# Altium integrated library Capacitors - Aluminum - Electrolytic SMT.IntLib: 1988 symbols (part 28 of 50)
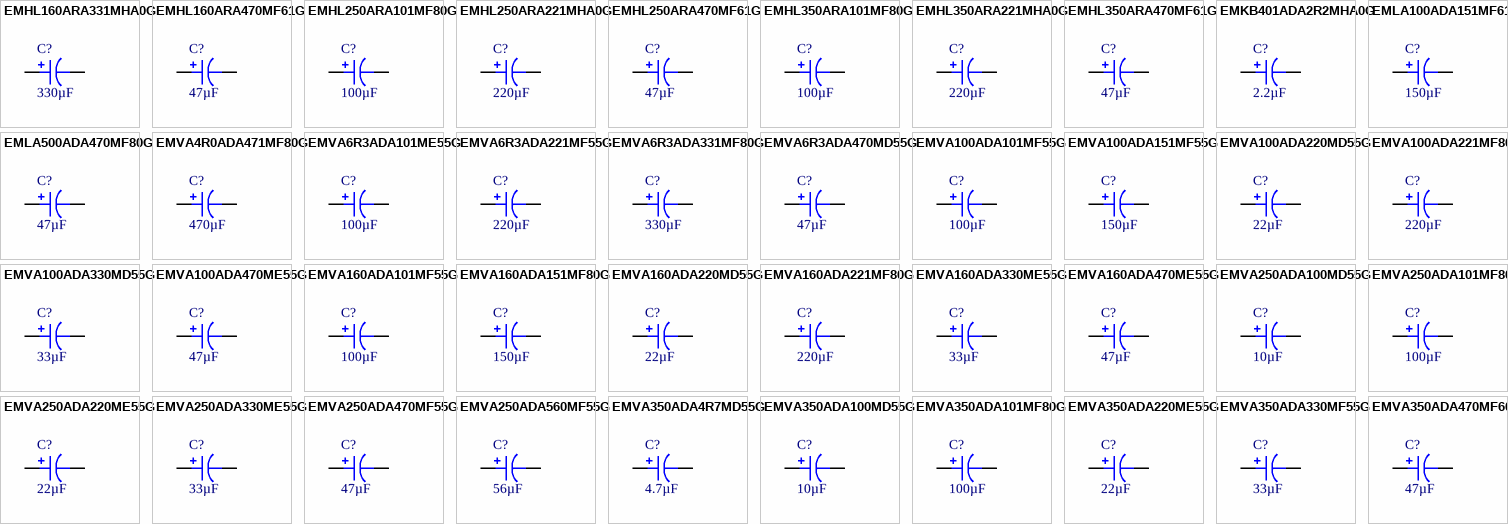
[diagram p75: symbols EMHL160ARA331MHA0G to EMVA350ADA470MF60G]

## EMVA250ADA101MF80G
designator C?, comment 100µF
CAP ALUM 100UF 20% 25V SMD; Part Number: EMVA250ADA101MF80G; Manufacturer: United Chemi-Con; Lifetime @ Temp.: 2000 Hrs @ 85°C; Polarization: Polar; Ripple Current @ High Frequency: 129.6mA @ 100kHz; Ripple Current @ Low Frequency: 120mA @ 120Hz; Surface Mount Land Size: 0.260" L x 0.260" W (6.60mm x 6.60mm); Applications: General Purpose; Capacitance: 100µF; ComponentLink1Description: Datasheet; ComponentLink1URL: http://www.chemi-con.co.jp/cgi-bin/CAT_DB/SEARCH/cat_db_al.cgi?e=e&j=p&pdfname=mva; ComponentLink2Description: DigiKey Link; ComponentLink2URL: http://digikey.com/product-detail/en/united-chemi-con/EMVA250ADA101MF80G/565-2105-1-ND/757266; Device Package: Radial, Can - SMD; Height - Seated (Max): 0.303" (7.70mm); LastUpdated: 9/2/2020 1:25:35 AM; Lifecycle Status: Active; Minimum Order: 1; Mounting Type: Surface Mount; Operating Temperature: -40°C ~ 85°C; Package / Case: Radial, Can - SMD; Packaging: TapeAndReel; PartId: 8202; Part Status: Active; Price: 0.14; Series: Alchip™- MVA; Size / Dimension: 0.248" Dia (6.30mm); Supplier 1: DigiKey; Supplier Part Number 1: 565-2105-1-ND; Tolerance: ±20%; Value: 100µF; Voltage - Rated: 25V
footprint CAP ALSMD 6.6MM H7.7MM
pins: 1, 2

## EMVA250ADA220ME55G
designator C?, comment 22µF
CAP ALUM 22UF 20% 25V SMD; Part Number: EMVA250ADA220ME55G; Manufacturer: United Chemi-Con; Lifetime @ Temp.: 2000 Hrs @ 85°C; Polarization: Polar; Ripple Current @ High Frequency: 44.28mA @ 100kHz; Ripple Current @ Low Frequency: 41mA @ 120Hz; Surface Mount Land Size: 0.209" L x 0.209" W (5.30mm x 5.30mm); Applications: General Purpose; Capacitance: 22µF; ComponentLink1Description: Datasheet; ComponentLink1URL: http://www.chemi-con.co.jp/cgi-bin/CAT_DB/SEARCH/cat_db_al.cgi?e=e&j=p&pdfname=mva; ComponentLink2Description: DigiKey Link; ComponentLink2URL: http://digikey.com/product-detail/en/united-chemi-con/EMVA250ADA220ME55G/565-2101-1-ND/757262; Device Package: Radial, Can - SMD; Height - Seated (Max): 0.205" (5.20mm); LastUpdated: 9/2/2020 1:18:29 AM; Lifecycle Status: Active; Minimum Order: 1; Mounting Type: Surface Mount; Operating Temperature: -40°C ~ 85°C; Package / Case: Radial, Can - SMD; Packaging: TapeAndReel; PartId: 8563; Part Status: Active; Price: 0.08; Series: Alchip™- MVA; Size / Dimension: 0.197" Dia (5.00mm); Supplier 1: DigiKey; Supplier Part Number 1: 565-2101-1-ND; Tolerance: ±20%; Value: 22µF; Voltage - Rated: 25V
footprint CAP ALSMD 5.3MM H5.4MM
pins: 1, 2

## EMVA250ADA330ME55G
designator C?, comment 33µF
CAP ALUM 33UF 20% 25V SMD; Part Number: EMVA250ADA330ME55G; Manufacturer: United Chemi-Con; Lifetime @ Temp.: 2000 Hrs @ 85°C; Polarization: Polar; Ripple Current @ High Frequency: 50.76mA @ 100kHz; Ripple Current @ Low Frequency: 47mA @ 120Hz; Surface Mount Land Size: 0.209" L x 0.209" W (5.30mm x 5.30mm); Applications: General Purpose; Capacitance: 33µF; ComponentLink1Description: Datasheet; ComponentLink1URL: http://www.chemi-con.co.jp/cgi-bin/CAT_DB/SEARCH/cat_db_al.cgi?e=e&j=p&pdfname=mva; ComponentLink2Description: DigiKey Link; ComponentLink2URL: http://digikey.com/product-detail/en/united-chemi-con/EMVA250ADA330ME55G/565-2102-1-ND/757263; Device Package: Radial, Can - SMD; Height - Seated (Max): 0.205" (5.20mm); LastUpdated: 9/2/2020 1:18:29 AM; Lifecycle Status: Active; Minimum Order: 1; Mounting Type: Surface Mount; Operating Temperature: -40°C ~ 85°C; Package / Case: Radial, Can - SMD; Packaging: TapeAndReel; PartId: 8564; Part Status: Active; Price: 0.08; Series: Alchip™- MVA; Size / Dimension: 0.197" Dia (5.00mm); Supplier 1: DigiKey; Supplier Part Number 1: 565-2102-1-ND; Tolerance: ±20%; Value: 33µF; Voltage - Rated: 25V
footprint CAP ALSMD 5.3MM H5.4MM
pins: 1, 2

## EMVA250ADA470MF55G
designator C?, comment 47µF
CAP ALUM 47UF 20% 25V SMD; Part Number: EMVA250ADA470MF55G; Manufacturer: United Chemi-Con; Lifetime @ Temp.: 2000 Hrs @ 85°C; Polarization: Polar; Ripple Current @ High Frequency: 64.8mA @ 100kHz; Ripple Current @ Low Frequency: 60mA @ 120Hz; Surface Mount Land Size: 0.260" L x 0.260" W (6.60mm x 6.60mm); Applications: General Purpose; Capacitance: 47µF; ComponentLink1Description: Datasheet; ComponentLink1URL: http://www.chemi-con.co.jp/cgi-bin/CAT_DB/SEARCH/cat_db_al.cgi?e=e&j=p&pdfname=mva; ComponentLink2Description: DigiKey Link; ComponentLink2URL: http://digikey.com/product-detail/en/united-chemi-con/EMVA250ADA470MF55G/565-2103-1-ND/757264; Device Package: Radial, Can - SMD; Height - Seated (Max): 0.205" (5.20mm); LastUpdated: 9/2/2020 1:18:32 AM; Lifecycle Status: Active; Minimum Order: 1; Mounting Type: Surface Mount; Operating Temperature: -40°C ~ 85°C; Package / Case: Radial, Can - SMD; Packaging: TapeAndReel; PartId: 8686; Part Status: Active; Price: 0.08; Series: Alchip™- MVA; Size / Dimension: 0.248" Dia (6.30mm); Supplier 1: DigiKey; Supplier Part Number 1: 565-2103-1-ND; Tolerance: ±20%; Value: 47µF; Voltage - Rated: 25V
footprint CAP ALSMD 6.6MM H5.4MM
pins: 1, 2

## EMVA250ADA560MF55G
designator C?, comment 56µF
CAP ALUM 56UF 20% 25V SMD; Part Number: EMVA250ADA560MF55G; Manufacturer: United Chemi-Con; Lifetime @ Temp.: 2000 Hrs @ 85°C; Polarization: Polar; Ripple Current @ High Frequency: 71.28mA @ 100kHz; Ripple Current @ Low Frequency: 66mA @ 120Hz; Surface Mount Land Size: 0.260" L x 0.260" W (6.60mm x 6.60mm); Applications: General Purpose; Capacitance: 56µF; ComponentLink1Description: Datasheet; ComponentLink1URL: http://www.chemi-con.co.jp/cgi-bin/CAT_DB/SEARCH/cat_db_al.cgi?e=e&j=p&pdfname=mva; ComponentLink2Description: DigiKey Link; ComponentLink2URL: http://digikey.com/product-detail/en/united-chemi-con/EMVA250ADA560MF55G/565-2104-1-ND/757265; Device Package: Radial, Can - SMD; Height - Seated (Max): 0.205" (5.20mm); LastUpdated: 9/2/2020 1:18:32 AM; Lifecycle Status: Active; Minimum Order: 1; Mounting Type: Surface Mount; Operating Temperature: -40°C ~ 85°C; Package / Case: Radial, Can - SMD; Packaging: TapeAndReel; PartId: 8727; Part Status: Active; Price: 0.08; Series: Alchip™- MVA; Size / Dimension: 0.248" Dia (6.30mm); Supplier 1: DigiKey; Supplier Part Number 1: 565-2104-1-ND; Tolerance: ±20%; Value: 56µF; Voltage - Rated: 25V
footprint CAP ALSMD 6.6MM H5.4MM
pins: 1, 2

## EMVA350ADA4R7MD55G
designator C?, comment 4.7µF
CAP ALUM 4.7UF 20% 35V SMD; Part Number: EMVA350ADA4R7MD55G; Manufacturer: United Chemi-Con; Lifetime @ Temp.: 2000 Hrs @ 85°C; Polarization: Polar; Ripple Current @ High Frequency: 27mA @ 100kHz; Ripple Current @ Low Frequency: 18mA @ 120Hz; Surface Mount Land Size: 0.169" L x 0.169" W (4.30mm x 4.30mm); Applications: General Purpose; Capacitance: 4.7µF; ComponentLink1Description: Datasheet; ComponentLink1URL: http://www.chemi-con.co.jp/cgi-bin/CAT_DB/SEARCH/cat_db_al.cgi?e=e&j=p&pdfname=mva; ComponentLink2Description: DigiKey Link; ComponentLink2URL: http://digikey.com/product-detail/en/united-chemi-con/EMVA350ADA4R7MD55G/565-2114-1-ND/757275; Device Package: Radial, Can - SMD; Height - Seated (Max): 0.205" (5.20mm); LastUpdated: 9/2/2020 1:23:43 AM; Lifecycle Status: Active; Minimum Order: 1; Mounting Type: Surface Mount; Operating Temperature: -40°C ~ 85°C; Package / Case: Radial, Can - SMD; Packaging: TapeAndReel; PartId: 7174; Part Status: Active; Price: 0.07; Series: Alchip™- MVA; Size / Dimension: 0.157" Dia (4.00mm); Supplier 1: DigiKey; Supplier Part Number 1: 565-2114-1-ND; Tolerance: ±20%; Value: 4.7µF; Voltage - Rated: 35V
footprint CAP ALSMD POLY 4.3MM H5.5MM
pins: 1, 2

## EMVA350ADA100MD55G
designator C?, comment 10µF
CAP ALUM 10UF 20% 35V SMD; Part Number: EMVA350ADA100MD55G; Manufacturer: United Chemi-Con; Lifetime @ Temp.: 2000 Hrs @ 85°C; Polarization: Polar; Ripple Current @ High Frequency: 36mA @ 100kHz; Ripple Current @ Low Frequency: 24mA @ 120Hz; Surface Mount Land Size: 0.169" L x 0.169" W (4.30mm x 4.30mm); Applications: General Purpose; Capacitance: 10µF; ComponentLink1Description: Datasheet; ComponentLink1URL: http://www.chemi-con.co.jp/cgi-bin/CAT_DB/SEARCH/cat_db_al.cgi?e=e&j=p&pdfname=mva; ComponentLink2Description: DigiKey Link; ComponentLink2URL: http://digikey.com/product-detail/en/united-chemi-con/EMVA350ADA100MD55G/565-2115-1-ND/757276; Device Package: Radial, Can - SMD; Height - Seated (Max): 0.205" (5.20mm); LastUpdated: 9/2/2020 1:23:44 AM; Lifecycle Status: Active; Minimum Order: 1; Mounting Type: Surface Mount; Operating Temperature: -40°C ~ 85°C; Package / Case: Radial, Can - SMD; Packaging: TapeAndReel; PartId: 7111; Part Status: Active; Price: 0.07; Series: Alchip™- MVA; Size / Dimension: 0.157" Dia (4.00mm); Supplier 1: DigiKey; Supplier Part Number 1: 565-2115-1-ND; Tolerance: ±20%; Value: 10µF; Voltage - Rated: 35V
footprint CAP ALSMD POLY 4.3MM H5.5MM
pins: 1, 2

## EMVA350ADA101MF80G
designator C?, comment 100µF
CAP ALUM 100UF 20% 35V SMD; Part Number: EMVA350ADA101MF80G; Manufacturer: United Chemi-Con; Lifetime @ Temp.: 2000 Hrs @ 85°C; Polarization: Polar; Ripple Current @ High Frequency: 129.6mA @ 100kHz; Ripple Current @ Low Frequency: 120mA @ 120Hz; Surface Mount Land Size: 0.260" L x 0.260" W (6.60mm x 6.60mm); Applications: General Purpose; Capacitance: 100µF; ComponentLink1Description: Datasheet; ComponentLink1URL: http://www.chemi-con.co.jp/cgi-bin/CAT_DB/SEARCH/cat_db_al.cgi?e=e&j=p&pdfname=mva; ComponentLink2Description: DigiKey Link; ComponentLink2URL: http://digikey.com/product-detail/en/united-chemi-con/EMVA350ADA101MF80G/565-2119-1-ND/757280; Device Package: Radial, Can - SMD; Height - Seated (Max): 0.303" (7.70mm); LastUpdated: 9/2/2020 1:25:34 AM; Lifecycle Status: Active; Minimum Order: 1; Mounting Type: Surface Mount; Operating Temperature: -40°C ~ 85°C; Package / Case: Radial, Can - SMD; Packaging: TapeAndReel; PartId: 8325; Part Status: Active; Price: 0.14; Series: Alchip™- MVA; Size / Dimension: 0.248" Dia (6.30mm); Supplier 1: DigiKey; Supplier Part Number 1: 565-2119-1-ND; Tolerance: ±20%; Value: 100µF; Voltage - Rated: 35V
footprint CAP ALSMD 6.6MM H7.7MM
pins: 1, 2

## EMVA350ADA220ME55G
designator C?, comment 22µF
CAP ALUM 22UF 20% 35V SMD; Part Number: EMVA350ADA220ME55G; Manufacturer: United Chemi-Con; Lifetime @ Temp.: 2000 Hrs @ 85°C; Polarization: Polar; Ripple Current @ High Frequency: 44.28mA @ 100kHz; Ripple Current @ Low Frequency: 41mA @ 120Hz; Surface Mount Land Size: 0.209" L x 0.209" W (5.30mm x 5.30mm); Applications: General Purpose; Capacitance: 22µF; ComponentLink1Description: Datasheet; ComponentLink1URL: http://www.chemi-con.co.jp/cgi-bin/CAT_DB/SEARCH/cat_db_al.cgi?e=e&j=p&pdfname=mva; ComponentLink2Description: DigiKey Link; ComponentLink2URL: http://digikey.com/product-detail/en/united-chemi-con/EMVA350ADA220ME55G/565-2116-1-ND/757277; Device Package: Radial, Can - SMD; Height - Seated (Max): 0.205" (5.20mm); LastUpdated: 9/2/2020 1:18:29 AM; Lifecycle Status: Active; Minimum Order: 1; Mounting Type: Surface Mount; Operating Temperature: -40°C ~ 85°C; Package / Case: Radial, Can - SMD; Packaging: TapeAndReel; PartId: 8569; Part Status: Active; Price: 0.08; Series: Alchip™- MVA; Size / Dimension: 0.197" Dia (5.00mm); Supplier 1: DigiKey; Supplier Part Number 1: 565-2116-1-ND; Tolerance: ±20%; Value: 22µF; Voltage - Rated: 35V
footprint CAP ALSMD 5.3MM H5.4MM
pins: 1, 2

## EMVA350ADA330MF55G
designator C?, comment 33µF
CAP ALUM 33UF 20% 35V SMD; Part Number: EMVA350ADA330MF55G; Manufacturer: United Chemi-Con; Lifetime @ Temp.: 2000 Hrs @ 85°C; Polarization: Polar; Ripple Current @ High Frequency: 58.32mA @ 100kHz; Ripple Current @ Low Frequency: 54mA @ 120Hz; Surface Mount Land Size: 0.260" L x 0.260" W (6.60mm x 6.60mm); Applications: General Purpose; Capacitance: 33µF; ComponentLink1Description: Datasheet; ComponentLink1URL: http://www.chemi-con.co.jp/cgi-bin/CAT_DB/SEARCH/cat_db_al.cgi?e=e&j=p&pdfname=mva; ComponentLink2Description: DigiKey Link; ComponentLink2URL: http://digikey.com/product-detail/en/united-chemi-con/EMVA350ADA330MF55G/565-2117-1-ND/757278; Device Package: Radial, Can - SMD; Height - Seated (Max): 0.205" (5.20mm); LastUpdated: 9/2/2020 1:18:32 AM; Lifecycle Status: Active; Minimum Order: 1; Mounting Type: Surface Mount; Operating Temperature: -40°C ~ 85°C; Package / Case: Radial, Can - SMD; Packaging: TapeAndReel; PartId: 8685; Part Status: Active; Price: 0.08; Series: Alchip™- MVA; Size / Dimension: 0.248" Dia (6.30mm); Supplier 1: DigiKey; Supplier Part Number 1: 565-2117-1-ND; Tolerance: ±20%; Value: 33µF; Voltage - Rated: 35V
footprint CAP ALSMD 6.6MM H5.4MM
pins: 1, 2

## EMVA350ADA470MF60G
designator C?, comment 47µF
CAP ALUM 47UF 20% 35V SMD; Part Number: EMVA350ADA470MF60G; Manufacturer: United Chemi-Con; Lifetime @ Temp.: 2000 Hrs @ 85°C; Polarization: Polar; Ripple Current @ High Frequency: 69.12mA @ 100kHz; Ripple Current @ Low Frequency: 64mA @ 120Hz; Surface Mount Land Size: 0.260" L x 0.260" W (6.60mm x 6.60mm); Applications: General Purpose; Capacitance: 47µF; ComponentLink1Description: Datasheet; ComponentLink1URL: http://www.chemi-con.co.jp/cgi-bin/CAT_DB/SEARCH/cat_db_al.cgi?e=e&j=p&pdfname=mva; ComponentLink2Description: DigiKey Link; ComponentLink2URL: http://digikey.com/product-detail/en/united-chemi-con/EMVA350ADA470MF60G/565-2118-1-ND/757279; Device Package: Radial, Can - SMD; Height - Seated (Max): 0.224" (5.70mm); LastUpdated: 9/2/2020 1:18:38 AM; Lifecycle Status: Active; Minimum Order: 1; Mounting Type: Surface Mount; Operating Temperature: -40°C ~ 85°C; Package / Case: Radial, Can - SMD; Packaging: TapeAndReel; PartId: 8899; Part Status: Active; Price: 0.09; Series: Alchip™- MVA; Size / Dimension: 0.248" Dia (6.30mm); Supplier 1: DigiKey; Supplier Part Number 1: 565-2118-1-ND; Tolerance: ±20%; Value: 47µF; Voltage - Rated: 35V
footprint CAP ALSMD 6.6MM H6.1MM
pins: 1, 2

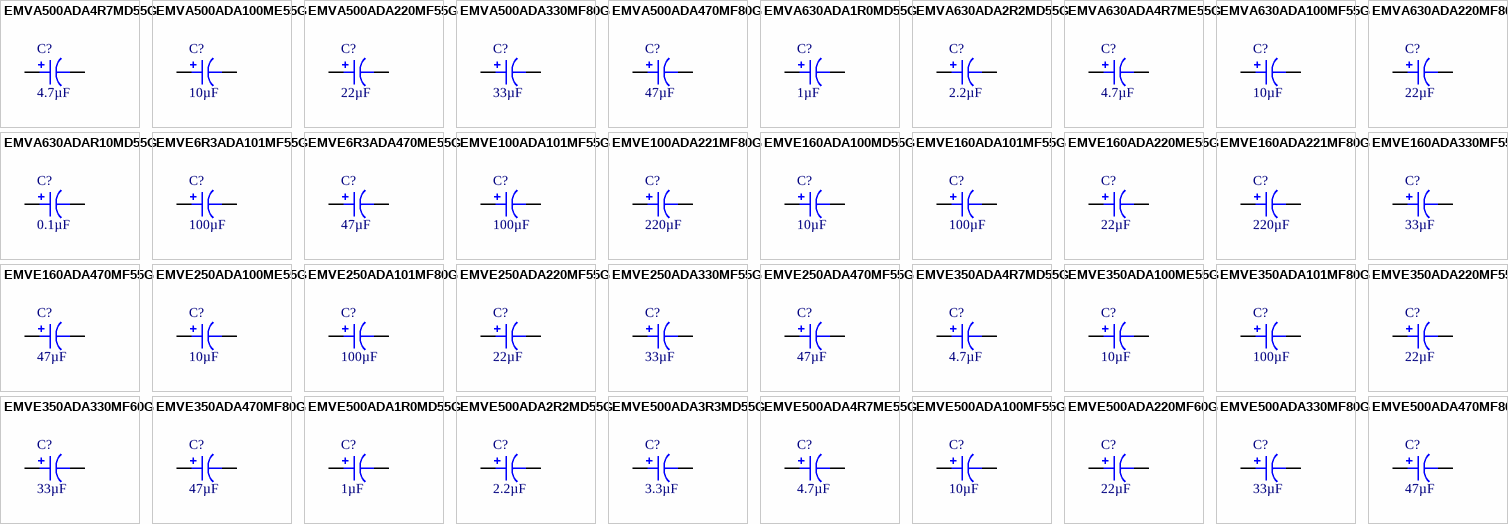
[diagram p27: symbols EMVA500ADA4R7MD55G to EMVE500ADA470MF80G]

## EMVA500ADA4R7MD55G
designator C?, comment 4.7µF
CAP ALUM 4.7UF 20% 50V SMD; Part Number: EMVA500ADA4R7MD55G; Manufacturer: United Chemi-Con; Lifetime @ Temp.: 2000 Hrs @ 85°C; Polarization: Polar; Ripple Current @ High Frequency: 27mA @ 100kHz; Ripple Current @ Low Frequency: 18mA @ 120Hz; Surface Mount Land Size: 0.169" L x 0.169" W (4.30mm x 4.30mm); Applications: General Purpose; Capacitance: 4.7µF; ComponentLink1Description: Datasheet; ComponentLink1URL: http://www.chemi-con.co.jp/cgi-bin/CAT_DB/SEARCH/cat_db_al.cgi?e=e&j=p&pdfname=mva; ComponentLink2Description: DigiKey Link; ComponentLink2URL: http://digikey.com/product-detail/en/united-chemi-con/EMVA500ADA4R7MD55G/565-2128-1-ND/757289; Device Package: Radial, Can - SMD; Height - Seated (Max): 0.205" (5.20mm); LastUpdated: 9/2/2020 1:23:46 AM; Lifecycle Status: Active; Minimum Order: 1; Mounting Type: Surface Mount; Operating Temperature: -40°C ~ 85°C; Package / Case: Radial, Can - SMD; Packaging: TapeAndReel; PartId: 7042; Part Status: Active; Price: 0.07; Series: Alchip™- MVA; Size / Dimension: 0.157" Dia (4.00mm); Supplier 1: DigiKey; Supplier Part Number 1: 565-2128-1-ND; Tolerance: ±20%; Value: 4.7µF; Voltage - Rated: 50V
footprint CAP ALSMD POLY 4.3MM H5.5MM
pins: 1, 2

## EMVA500ADA100ME55G
designator C?, comment 10µF
CAP ALUM 10UF 20% 50V SMD; Part Number: EMVA500ADA100ME55G; Manufacturer: United Chemi-Con; Lifetime @ Temp.: 2000 Hrs @ 85°C; Polarization: Polar; Ripple Current @ High Frequency: 45mA @ 100kHz; Ripple Current @ Low Frequency: 30mA @ 120Hz; Surface Mount Land Size: 0.209" L x 0.209" W (5.30mm x 5.30mm); Applications: General Purpose; Capacitance: 10µF; ComponentLink1Description: Datasheet; ComponentLink1URL: http://www.chemi-con.co.jp/cgi-bin/CAT_DB/SEARCH/cat_db_al.cgi?e=e&j=p&pdfname=mva; ComponentLink2Description: DigiKey Link; ComponentLink2URL: http://digikey.com/product-detail/en/united-chemi-con/EMVA500ADA100ME55G/565-2129-1-ND/757290; Device Package: Radial, Can - SMD; Height - Seated (Max): 0.205" (5.20mm); LastUpdated: 9/2/2020 1:18:30 AM; Lifecycle Status: Active; Minimum Order: 1; Mounting Type: Surface Mount; Operating Temperature: -40°C ~ 85°C; Package / Case: Radial, Can - SMD; Packaging: TapeAndReel; PartId: 8590; Part Status: Active; Price: 0.08; Series: Alchip™- MVA; Size / Dimension: 0.197" Dia (5.00mm); Supplier 1: DigiKey; Supplier Part Number 1: 565-2129-1-ND; Tolerance: ±20%; Value: 10µF; Voltage - Rated: 50V
footprint CAP ALSMD 5.3MM H5.4MM
pins: 1, 2

## EMVA500ADA220MF55G
designator C?, comment 22µF
CAP ALUM 22UF 20% 50V SMD; Part Number: EMVA500ADA220MF55G; Manufacturer: United Chemi-Con; Lifetime @ Temp.: 2000 Hrs @ 85°C; Polarization: Polar; Ripple Current @ High Frequency: 50.76mA @ 100kHz; Ripple Current @ Low Frequency: 47mA @ 120Hz; Surface Mount Land Size: 0.260" L x 0.260" W (6.60mm x 6.60mm); Applications: General Purpose; Capacitance: 22µF; ComponentLink1Description: Datasheet; ComponentLink1URL: http://www.chemi-con.co.jp/cgi-bin/CAT_DB/SEARCH/cat_db_al.cgi?e=e&j=p&pdfname=mva; ComponentLink2Description: DigiKey Link; ComponentLink2URL: http://digikey.com/product-detail/en/united-chemi-con/EMVA500ADA220MF55G/565-2130-1-ND/757291; Device Package: Radial, Can - SMD; Height - Seated (Max): 0.205" (5.20mm); LastUpdated: 9/2/2020 1:18:32 AM; Lifecycle Status: Active; Minimum Order: 1; Mounting Type: Surface Mount; Operating Temperature: -40°C ~ 85°C; Package / Case: Radial, Can - SMD; Packaging: TapeAndReel; PartId: 8687; Part Status: Active; Price: 0.08; Series: Alchip™- MVA; Size / Dimension: 0.248" Dia (6.30mm); Supplier 1: DigiKey; Supplier Part Number 1: 565-2130-1-ND; Tolerance: ±20%; Value: 22µF; Voltage - Rated: 50V
footprint CAP ALSMD 6.6MM H5.4MM
pins: 1, 2

## EMVA500ADA330MF80G
designator C?, comment 33µF
CAP ALUM 33UF 20% 50V SMD; Part Number: EMVA500ADA330MF80G; Manufacturer: United Chemi-Con; Lifetime @ Temp.: 2000 Hrs @ 85°C; Polarization: Polar; Ripple Current @ High Frequency: 75.6mA @ 100kHz; Ripple Current @ Low Frequency: 70mA @ 120Hz; Surface Mount Land Size: 0.260" L x 0.260" W (6.60mm x 6.60mm); Applications: General Purpose; Capacitance: 33µF; ComponentLink1Description: Datasheet; ComponentLink1URL: http://www.chemi-con.co.jp/cgi-bin/CAT_DB/SEARCH/cat_db_al.cgi?e=e&j=p&pdfname=mva; ComponentLink2Description: DigiKey Link; ComponentLink2URL: http://digikey.com/product-detail/en/united-chemi-con/EMVA500ADA330MF80G/565-2131-1-ND/757292; Device Package: Radial, Can - SMD; Height - Seated (Max): 0.303" (7.70mm); LastUpdated: 9/2/2020 1:25:34 AM; Lifecycle Status: Active; Minimum Order: 1; Mounting Type: Surface Mount; Operating Temperature: -40°C ~ 85°C; Package / Case: Radial, Can - SMD; Packaging: TapeAndReel; PartId: 8280; Part Status: Active; Price: 0.14; Series: Alchip™- MVA; Size / Dimension: 0.248" Dia (6.30mm); Supplier 1: DigiKey; Supplier Part Number 1: 565-2131-1-ND; Tolerance: ±20%; Value: 33µF; Voltage - Rated: 50V
footprint CAP ALSMD 6.6MM H7.7MM
pins: 1, 2

## EMVA500ADA470MF80G
designator C?, comment 47µF
CAP ALUM 47UF 20% 50V SMD; Part Number: EMVA500ADA470MF80G; Manufacturer: United Chemi-Con; Lifetime @ Temp.: 2000 Hrs @ 85°C; Polarization: Polar; Ripple Current @ High Frequency: 91.8mA @ 100kHz; Ripple Current @ Low Frequency: 85mA @ 120Hz; Surface Mount Land Size: 0.260" L x 0.260" W (6.60mm x 6.60mm); Applications: General Purpose; Capacitance: 47µF; ComponentLink1Description: Datasheet; ComponentLink1URL: http://www.chemi-con.co.jp/cgi-bin/CAT_DB/SEARCH/cat_db_al.cgi?e=e&j=p&pdfname=mva; ComponentLink2Description: DigiKey Link; ComponentLink2URL: http://digikey.com/product-detail/en/united-chemi-con/EMVA500ADA470MF80G/565-2132-1-ND/757293; Device Package: Radial, Can - SMD; Height - Seated (Max): 0.303" (7.70mm); LastUpdated: 9/2/2020 1:25:34 AM; Lifecycle Status: Active; Minimum Order: 1; Mounting Type: Surface Mount; Operating Temperature: -40°C ~ 85°C; Package / Case: Radial, Can - SMD; Packaging: TapeAndReel; PartId: 8328; Part Status: Active; Price: 0.14; Series: Alchip™- MVA; Size / Dimension: 0.248" Dia (6.30mm); Supplier 1: DigiKey; Supplier Part Number 1: 565-2132-1-ND; Tolerance: ±20%; Value: 47µF; Voltage - Rated: 50V
footprint CAP ALSMD 6.6MM H7.7MM
pins: 1, 2

## EMVA630ADA1R0MD55G
designator C?, comment 1µF
CAP ALUM 1UF 20% 63V SMD; Part Number: EMVA630ADA1R0MD55G; Manufacturer: United Chemi-Con; Lifetime @ Temp.: 2000 Hrs @ 85°C; Polarization: Polar; Ripple Current @ High Frequency: 14.4mA @ 100kHz; Ripple Current @ Low Frequency: 8mA @ 120Hz; Surface Mount Land Size: 0.169" L x 0.169" W (4.30mm x 4.30mm); Applications: General Purpose; Capacitance: 1µF; ComponentLink1Description: Datasheet; ComponentLink1URL: http://www.chemi-con.co.jp/cgi-bin/CAT_DB/SEARCH/cat_db_al.cgi?e=e&j=p&pdfname=mva; ComponentLink2Description: DigiKey Link; ComponentLink2URL: http://digikey.com/product-detail/en/united-chemi-con/EMVA630ADA1R0MD55G/565-2144-1-ND/757305; Device Package: Radial, Can - SMD; Height - Seated (Max): 0.205" (5.20mm); LastUpdated: 9/2/2020 1:23:45 AM; Lifecycle Status: Active; Minimum Order: 1; Mounting Type: Surface Mount; Operating Temperature: -40°C ~ 85°C; Package / Case: Radial, Can - SMD; Packaging: TapeAndReel; PartId: 7086; Part Status: Active; Price: 0.07; Series: Alchip™- MVA; Size / Dimension: 0.157" Dia (4.00mm); Supplier 1: DigiKey; Supplier Part Number 1: 565-2144-1-ND; Tolerance: ±20%; Value: 1µF; Voltage - Rated: 63V
footprint CAP ALSMD POLY 4.3MM H5.5MM
pins: 1, 2

## EMVA630ADA2R2MD55G
designator C?, comment 2.2µF
CAP ALUM 2.2UF 20% 63V SMD; Part Number: EMVA630ADA2R2MD55G; Manufacturer: United Chemi-Con; Lifetime @ Temp.: 2000 Hrs @ 85°C; Polarization: Polar; Ripple Current @ High Frequency: 18mA @ 100kHz; Ripple Current @ Low Frequency: 12mA @ 120Hz; Surface Mount Land Size: 0.169" L x 0.169" W (4.30mm x 4.30mm); Applications: General Purpose; Capacitance: 2.2µF; ComponentLink1Description: Datasheet; ComponentLink1URL: http://www.chemi-con.co.jp/cgi-bin/CAT_DB/SEARCH/cat_db_al.cgi?e=e&j=p&pdfname=mva; ComponentLink2Description: DigiKey Link; ComponentLink2URL: http://digikey.com/product-detail/en/united-chemi-con/EMVA630ADA2R2MD55G/565-2145-1-ND/757306; Device Package: Radial, Can - SMD; Height - Seated (Max): 0.205" (5.20mm); LastUpdated: 9/2/2020 1:23:44 AM; Lifecycle Status: Active; Minimum Order: 1; Mounting Type: Surface Mount; Operating Temperature: -40°C ~ 85°C; Package / Case: Radial, Can - SMD; Packaging: TapeAndReel; PartId: 7110; Part Status: Active; Price: 0.07; Series: Alchip™- MVA; Size / Dimension: 0.157" Dia (4.00mm); Supplier 1: DigiKey; Supplier Part Number 1: 565-2145-1-ND; Tolerance: ±20%; Value: 2.2µF; Voltage - Rated: 63V
footprint CAP ALSMD POLY 4.3MM H5.5MM
pins: 1, 2

## EMVA630ADA4R7ME55G
designator C?, comment 4.7µF
CAP ALUM 4.7UF 20% 63V SMD; Part Number: EMVA630ADA4R7ME55G; Manufacturer: United Chemi-Con; Lifetime @ Temp.: 2000 Hrs @ 85°C; Polarization: Polar; Ripple Current @ High Frequency: 30mA @ 100kHz; Ripple Current @ Low Frequency: 20mA @ 120Hz; Surface Mount Land Size: 0.209" L x 0.209" W (5.30mm x 5.30mm); Applications: General Purpose; Capacitance: 4.7µF; ComponentLink1Description: Datasheet; ComponentLink1URL: http://www.chemi-con.co.jp/cgi-bin/CAT_DB/SEARCH/cat_db_al.cgi?e=e&j=p&pdfname=mva; ComponentLink2Description: DigiKey Link; ComponentLink2URL: http://digikey.com/product-detail/en/united-chemi-con/EMVA630ADA4R7ME55G/565-2147-1-ND/757308; Device Package: Radial, Can - SMD; Height - Seated (Max): 0.205" (5.20mm); LastUpdated: 9/2/2020 1:18:30 AM; Lifecycle Status: Active; Minimum Order: 1; Mounting Type: Surface Mount; Operating Temperature: -40°C ~ 85°C; Package / Case: Radial, Can - SMD; Packaging: TapeAndReel; PartId: 8588; Part Status: Active; Price: 0.08; Series: Alchip™- MVA; Size / Dimension: 0.197" Dia (5.00mm); Supplier 1: DigiKey; Supplier Part Number 1: 565-2147-1-ND; Tolerance: ±20%; Value: 4.7µF; Voltage - Rated: 63V
footprint CAP ALSMD 5.3MM H5.4MM
pins: 1, 2

## EMVA630ADA100MF55G
designator C?, comment 10µF
CAP ALUM 10UF 20% 63V SMD; Part Number: EMVA630ADA100MF55G; Manufacturer: United Chemi-Con; Lifetime @ Temp.: 2000 Hrs @ 85°C; Polarization: Polar; Ripple Current @ High Frequency: 48mA @ 100kHz; Ripple Current @ Low Frequency: 32mA @ 120Hz; Surface Mount Land Size: 0.260" L x 0.260" W (6.60mm x 6.60mm); Applications: General Purpose; Capacitance: 10µF; ComponentLink1Description: Datasheet; ComponentLink1URL: http://www.chemi-con.co.jp/cgi-bin/CAT_DB/SEARCH/cat_db_al.cgi?e=e&j=p&pdfname=mva; ComponentLink2Description: DigiKey Link; ComponentLink2URL: http://digikey.com/product-detail/en/united-chemi-con/EMVA630ADA100MF55G/565-2148-1-ND/757309; Device Package: Radial, Can - SMD; Height - Seated (Max): 0.205" (5.20mm); LastUpdated: 9/2/2020 1:18:32 AM; Lifecycle Status: Active; Minimum Order: 1; Mounting Type: Surface Mount; Operating Temperature: -40°C ~ 85°C; Package / Case: Radial, Can - SMD; Packaging: TapeAndReel; PartId: 8691; Part Status: Active; Price: 0.08; Series: Alchip™- MVA; Size / Dimension: 0.248" Dia (6.30mm); Supplier 1: DigiKey; Supplier Part Number 1: 565-2148-1-ND; Tolerance: ±20%; Value: 10µF; Voltage - Rated: 63V
footprint CAP ALSMD 6.6MM H5.4MM
pins: 1, 2

## EMVA630ADA220MF80G
designator C?, comment 22µF
CAP ALUM 22UF 20% 63V SMD; Part Number: EMVA630ADA220MF80G; Manufacturer: United Chemi-Con; Lifetime @ Temp.: 2000 Hrs @ 85°C; Polarization: Polar; Ripple Current @ High Frequency: 64.8mA @ 100kHz; Ripple Current @ Low Frequency: 60mA @ 120Hz; Surface Mount Land Size: 0.260" L x 0.260" W (6.60mm x 6.60mm); Applications: General Purpose; Capacitance: 22µF; ComponentLink1Description: Datasheet; ComponentLink1URL: http://www.chemi-con.co.jp/cgi-bin/CAT_DB/SEARCH/cat_db_al.cgi?e=e&j=p&pdfname=mva; ComponentLink2Description: DigiKey Link; ComponentLink2URL: http://digikey.com/product-detail/en/united-chemi-con/EMVA630ADA220MF80G/565-2149-1-ND/757310; Device Package: Radial, Can - SMD; Height - Seated (Max): 0.303" (7.70mm); LastUpdated: 9/2/2020 1:25:34 AM; Lifecycle Status: Active; Minimum Order: 1; Mounting Type: Surface Mount; Operating Temperature: -40°C ~ 85°C; Package / Case: Radial, Can - SMD; Packaging: TapeAndReel; PartId: 8278; Part Status: Active; Price: 0.14; Series: Alchip™- MVA; Size / Dimension: 0.248" Dia (6.30mm); Supplier 1: DigiKey; Supplier Part Number 1: 565-2149-1-ND; Tolerance: ±20%; Value: 22µF; Voltage - Rated: 63V
footprint CAP ALSMD 6.6MM H7.7MM
pins: 1, 2

## EMVA630ADAR10MD55G
designator C?, comment 0.1µF
CAP ALUM 0.1UF 20% 63V SMD; Part Number: EMVA630ADAR10MD55G; Manufacturer: United Chemi-Con; Lifetime @ Temp.: 2000 Hrs @ 85°C; Polarization: Polar; Ripple Current @ Low Frequency: 1.3mA @ 120Hz; Surface Mount Land Size: 0.169" L x 0.169" W (4.30mm x 4.30mm); Applications: General Purpose; Capacitance: 0.1µF; ComponentLink1Description: Datasheet; ComponentLink1URL: //media.digikey.com/pdf/Data%20Sheets/United%20Chemi-Con%20PDFs/MVA_Series_Rev_Sep2009.pdf; ComponentLink2Description: DigiKey Link; ComponentLink2URL: http://digikey.com/product-detail/en/united-chemi-con/EMVA630ADAR10MD55G/565-2140-1-ND/757301; Device Package: Radial, Can - SMD; Height - Seated (Max): 0.205" (5.20mm); LastUpdated: 9/2/2020 1:23:44 AM; Lifecycle Status: Active; Minimum Order: 1; Mounting Type: Surface Mount; Operating Temperature: -40°C ~ 85°C; Package / Case: Radial, Can - SMD; Packaging: TapeAndReel; PartId: 7095; Part Status: Active; Price: 0.07; Series: Alchip™- MVA; Size / Dimension: 0.157" Dia (4.00mm); Supplier 1: DigiKey; Supplier Part Number 1: 565-2140-1-ND; Tolerance: ±20%; Value: 0.1µF; Voltage - Rated: 63V
footprint CAP ALSMD POLY 4.3MM H5.5MM
pins: 1, 2

## EMVE6R3ADA101MF55G
designator C?, comment 100µF
CAP ALUM 100UF 20% 6.3V SMD; Part Number: EMVE6R3ADA101MF55G; Manufacturer: United Chemi-Con; Lifetime @ Temp.: 1000 Hrs @ 105°C; Polarization: Polar; Ripple Current @ Low Frequency: 69mA @ 120Hz; Surface Mount Land Size: 0.260" L x 0.260" W (6.60mm x 6.60mm); Applications: General Purpose; Capacitance: 100µF; ComponentLink1Description: Datasheet; ComponentLink1URL: //media.digikey.com/pdf/Data%20Sheets/United%20Chemi-Con%20PDFs/MVE%20Series.pdf; ComponentLink2Description: DigiKey Link; ComponentLink2URL: http://digikey.com/product-detail/en/united-chemi-con/EMVE6R3ADA101MF55G/565-2170-1-ND/757331; Device Package: Radial, Can - SMD; Height - Seated (Max): 0.205" (5.20mm); LastUpdated: 9/2/2020 1:18:33 AM; Lifecycle Status: Active; Minimum Order: 1; Mounting Type: Surface Mount; Operating Temperature: -40°C ~ 105°C; Package / Case: Radial, Can - SMD; Packaging: TapeAndReel; PartId: 8796; Part Status: Active; Price: 0.08; Series: Alchip™- MVE; Size / Dimension: 0.248" Dia (6.30mm); Supplier 1: DigiKey; Supplier Part Number 1: 565-2170-1-ND; Tolerance: ±20%; Value: 100µF; Voltage - Rated: 6.3V
footprint CAP ALSMD 6.6MM H5.4MM
pins: 1, 2

## EMVE6R3ADA470ME55G
designator C?, comment 47µF
CAP ALUM 47UF 20% 6.3V SMD; Part Number: EMVE6R3ADA470ME55G; Manufacturer: United Chemi-Con; Lifetime @ Temp.: 1000 Hrs @ 105°C; Polarization: Polar; Ripple Current @ Low Frequency: 38mA @ 120Hz; Surface Mount Land Size: 0.209" L x 0.209" W (5.30mm x 5.30mm); Applications: General Purpose; Capacitance: 47µF; ComponentLink1Description: Datasheet; ComponentLink1URL: //media.digikey.com/pdf/Data%20Sheets/United%20Chemi-Con%20PDFs/MVE%20Series.pdf; ComponentLink2Description: DigiKey Link; ComponentLink2URL: http://digikey.com/product-detail/en/united-chemi-con/EMVE6R3ADA470ME55G/565-2169-1-ND/757330; Device Package: Radial, Can - SMD; Height - Seated (Max): 0.205" (5.20mm); LastUpdated: 9/2/2020 1:18:29 AM; Lifecycle Status: Active; Minimum Order: 1; Mounting Type: Surface Mount; Operating Temperature: -40°C ~ 105°C; Package / Case: Radial, Can - SMD; Packaging: TapeAndReel; PartId: 8568; Part Status: Active; Price: 0.08; Series: Alchip™- MVE; Size / Dimension: 0.197" Dia (5.00mm); Supplier 1: DigiKey; Supplier Part Number 1: 565-2169-1-ND; Tolerance: ±20%; Value: 47µF; Voltage - Rated: 6.3V
footprint CAP ALSMD 5.3MM H5.4MM
pins: 1, 2

## EMVE100ADA101MF55G
designator C?, comment 100µF
CAP ALUM 100UF 20% 10V SMD; Part Number: EMVE100ADA101MF55G; Manufacturer: United Chemi-Con; Lifetime @ Temp.: 1000 Hrs @ 105°C; Polarization: Polar; Ripple Current @ Low Frequency: 69mA @ 120Hz; Surface Mount Land Size: 0.260" L x 0.260" W (6.60mm x 6.60mm); Applications: General Purpose; Capacitance: 100µF; ComponentLink1Description: Datasheet; ComponentLink1URL: //media.digikey.com/pdf/Data%20Sheets/United%20Chemi-Con%20PDFs/MVE%20Series.pdf; ComponentLink2Description: DigiKey Link; ComponentLink2URL: http://digikey.com/product-detail/en/united-chemi-con/EMVE100ADA101MF55G/565-2188-1-ND/757349; Device Package: Radial, Can - SMD; Height - Seated (Max): 0.205" (5.20mm); LastUpdated: 9/2/2020 1:18:33 AM; Lifecycle Status: Active; Minimum Order: 1; Mounting Type: Surface Mount; Operating Temperature: -40°C ~ 105°C; Package / Case: Radial, Can - SMD; Packaging: TapeAndReel; PartId: 8795; Part Status: Active; Price: 0.08; Series: Alchip™- MVE; Size / Dimension: 0.248" Dia (6.30mm); Supplier 1: DigiKey; Supplier Part Number 1: 565-2188-1-ND; Tolerance: ±20%; Value: 100µF; Voltage - Rated: 10V
footprint CAP ALSMD 6.6MM H5.4MM
pins: 1, 2

## EMVE100ADA221MF80G
designator C?, comment 220µF
CAP ALUM 220UF 20% 10V SMD; Part Number: EMVE100ADA221MF80G; Manufacturer: United Chemi-Con; Lifetime @ Temp.: 1000 Hrs @ 105°C; Polarization: Polar; Ripple Current @ Low Frequency: 120mA @ 120Hz; Surface Mount Land Size: 0.260" L x 0.260" W (6.60mm x 6.60mm); Applications: General Purpose; Capacitance: 220µF; ComponentLink1Description: Datasheet; ComponentLink1URL: //media.digikey.com/pdf/Data%20Sheets/United%20Chemi-Con%20PDFs/MVE%20Series.pdf; ComponentLink2Description: DigiKey Link; ComponentLink2URL: http://digikey.com/product-detail/en/united-chemi-con/EMVE100ADA221MF80G/565-2190-1-ND/757351; Device Package: Radial, Can - SMD; Height - Seated (Max): 0.303" (7.70mm); LastUpdated: 9/2/2020 1:25:34 AM; Lifecycle Status: Active; Minimum Order: 1; Mounting Type: Surface Mount; Operating Temperature: -40°C ~ 105°C; Package / Case: Radial, Can - SMD; Packaging: TapeAndReel; PartId: 8290; Part Status: Active; Price: 0.14; Series: Alchip™- MVE; Size / Dimension: 0.248" Dia (6.30mm); Supplier 1: DigiKey; Supplier Part Number 1: 565-2190-1-ND; Tolerance: ±20%; Value: 220µF; Voltage - Rated: 10V
footprint CAP ALSMD 6.6MM H7.7MM
pins: 1, 2

## EMVE160ADA100MD55G
designator C?, comment 10µF
CAP ALUM 10UF 20% 16V SMD; Part Number: EMVE160ADA100MD55G; Manufacturer: United Chemi-Con; Lifetime @ Temp.: 1000 Hrs @ 105°C; Polarization: Polar; Ripple Current @ Low Frequency: 17mA @ 120Hz; Surface Mount Land Size: 0.169" L x 0.169" W (4.30mm x 4.30mm); Applications: General Purpose; Capacitance: 10µF; ComponentLink1Description: Datasheet; ComponentLink1URL: //media.digikey.com/pdf/Data%20Sheets/United%20Chemi-Con%20PDFs/MVE%20Series.pdf; ComponentLink2Description: DigiKey Link; ComponentLink2URL: http://digikey.com/product-detail/en/united-chemi-con/EMVE160ADA100MD55G/565-2201-1-ND/757362; Device Package: Radial, Can - SMD; Height - Seated (Max): 0.205" (5.20mm); LastUpdated: 9/2/2020 1:23:44 AM; Lifecycle Status: Active; Minimum Order: 1; Mounting Type: Surface Mount; Operating Temperature: -40°C ~ 105°C; Package / Case: Radial, Can - SMD; Packaging: TapeAndReel; PartId: 7106; Part Status: Active; Price: 0.07; Series: Alchip™- MVE; Size / Dimension: 0.157" Dia (4.00mm); Supplier 1: DigiKey; Supplier Part Number 1: 565-2201-1-ND; Tolerance: ±20%; Value: 10µF; Voltage - Rated: 16V
footprint CAP ALSMD POLY 4.3MM H5.5MM
pins: 1, 2

## EMVE160ADA101MF55G
designator C?, comment 100µF
CAP ALUM 100UF 20% 16V SMD; Part Number: EMVE160ADA101MF55G; Manufacturer: United Chemi-Con; Lifetime @ Temp.: 1000 Hrs @ 105°C; Polarization: Polar; Ripple Current @ Low Frequency: 69mA @ 120Hz; Surface Mount Land Size: 0.260" L x 0.260" W (6.60mm x 6.60mm); Applications: General Purpose; Capacitance: 100µF; ComponentLink1Description: Datasheet; ComponentLink1URL: //media.digikey.com/pdf/Data%20Sheets/United%20Chemi-Con%20PDFs/MVE%20Series.pdf; ComponentLink2Description: DigiKey Link; ComponentLink2URL: http://digikey.com/product-detail/en/united-chemi-con/EMVE160ADA101MF55G/565-2204-1-ND/757365; Device Package: Radial, Can - SMD; Height - Seated (Max): 0.205" (5.20mm); LastUpdated: 9/2/2020 1:18:32 AM; Lifecycle Status: Active; Minimum Order: 1; Mounting Type: Surface Mount; Operating Temperature: -40°C ~ 105°C; Package / Case: Radial, Can - SMD; Packaging: TapeAndReel; PartId: 8696; Part Status: Active; Price: 0.08; Series: Alchip™- MVE; Size / Dimension: 0.248" Dia (6.30mm); Supplier 1: DigiKey; Supplier Part Number 1: 565-2204-1-ND; Tolerance: ±20%; Value: 100µF; Voltage - Rated: 16V
footprint CAP ALSMD 6.6MM H5.4MM
pins: 1, 2

## EMVE160ADA220ME55G
designator C?, comment 22µF
CAP ALUM 22UF 20% 16V SMD; Part Number: EMVE160ADA220ME55G; Manufacturer: United Chemi-Con; Lifetime @ Temp.: 1000 Hrs @ 105°C; Polarization: Polar; Ripple Current @ Low Frequency: 30mA @ 120Hz; Surface Mount Land Size: 0.209" L x 0.209" W (5.30mm x 5.30mm); Applications: General Purpose; Capacitance: 22µF; ComponentLink1Description: Datasheet; ComponentLink1URL: //media.digikey.com/pdf/Data%20Sheets/United%20Chemi-Con%20PDFs/MVE%20Series.pdf; ComponentLink2Description: DigiKey Link; ComponentLink2URL: http://digikey.com/product-detail/en/united-chemi-con/EMVE160ADA220ME55G/565-2202-1-ND/757363; Device Package: Radial, Can - SMD; Height - Seated (Max): 0.205" (5.20mm); LastUpdated: 9/2/2020 1:18:29 AM; Lifecycle Status: Active; Minimum Order: 1; Mounting Type: Surface Mount; Operating Temperature: -40°C ~ 105°C; Package / Case: Radial, Can - SMD; Packaging: TapeAndReel; PartId: 8565; Part Status: Active; Price: 0.08; Series: Alchip™- MVE; Size / Dimension: 0.197" Dia (5.00mm); Supplier 1: DigiKey; Supplier Part Number 1: 565-2202-1-ND; Tolerance: ±20%; Value: 22µF; Voltage - Rated: 16V
footprint CAP ALSMD 5.3MM H5.4MM
pins: 1, 2

## EMVE160ADA221MF80G
designator C?, comment 220µF
CAP ALUM 220UF 20% 16V SMD; Part Number: EMVE160ADA221MF80G; Manufacturer: United Chemi-Con; Lifetime @ Temp.: 1000 Hrs @ 105°C; Polarization: Polar; Ripple Current @ Low Frequency: 120mA @ 120Hz; Surface Mount Land Size: 0.260" L x 0.260" W (6.60mm x 6.60mm); Applications: General Purpose; Capacitance: 220µF; ComponentLink1Description: Datasheet; ComponentLink1URL: //media.digikey.com/pdf/Data%20Sheets/United%20Chemi-Con%20PDFs/MVE%20Series.pdf; ComponentLink2Description: DigiKey Link; ComponentLink2URL: http://digikey.com/product-detail/en/united-chemi-con/EMVE160ADA221MF80G/565-2206-1-ND/757367; Device Package: Radial, Can - SMD; Height - Seated (Max): 0.303" (7.70mm); LastUpdated: 9/2/2020 1:25:34 AM; Lifecycle Status: Active; Minimum Order: 1; Mounting Type: Surface Mount; Operating Temperature: -40°C ~ 105°C; Package / Case: Radial, Can - SMD; Packaging: TapeAndReel; PartId: 8327; Part Status: Active; Price: 0.14; Series: Alchip™- MVE; Size / Dimension: 0.248" Dia (6.30mm); Supplier 1: DigiKey; Supplier Part Number 1: 565-2206-1-ND; Tolerance: ±20%; Value: 220µF; Voltage - Rated: 16V
footprint CAP ALSMD 6.6MM H7.7MM
pins: 1, 2

## EMVE160ADA330MF55G
designator C?, comment 33µF
CAP ALUM 33UF 20% 16V SMD; Part Number: EMVE160ADA330MF55G; Manufacturer: United Chemi-Con; Lifetime @ Temp.: 1000 Hrs @ 105°C; Polarization: Polar; Ripple Current @ Low Frequency: 45mA @ 120Hz; Surface Mount Land Size: 0.260" L x 0.260" W (6.60mm x 6.60mm); Applications: General Purpose; Capacitance: 33µF; ComponentLink1Description: Datasheet; ComponentLink1URL: //media.digikey.com/pdf/Data%20Sheets/United%20Chemi-Con%20PDFs/MVE%20Series.pdf; ComponentLink2Description: DigiKey Link; ComponentLink2URL: http://digikey.com/product-detail/en/united-chemi-con/EMVE160ADA330MF55G/565-2203-1-ND/757364; Device Package: Radial, Can - SMD; Height - Seated (Max): 0.205" (5.20mm); LastUpdated: 9/2/2020 1:18:32 AM; Lifecycle Status: Active; Minimum Order: 1; Mounting Type: Surface Mount; Operating Temperature: -40°C ~ 105°C; Package / Case: Radial, Can - SMD; Packaging: TapeAndReel; PartId: 8644; Part Status: Active; Price: 0.08; Series: Alchip™- MVE; Size / Dimension: 0.248" Dia (6.30mm); Supplier 1: DigiKey; Supplier Part Number 1: 565-2203-1-ND; Tolerance: ±20%; Value: 33µF; Voltage - Rated: 16V
footprint CAP ALSMD 6.6MM H5.4MM
pins: 1, 2

## EMVE160ADA470MF55G
designator C?, comment 47µF
CAP ALUM 47UF 20% 16V SMD; Part Number: EMVE160ADA470MF55G; Manufacturer: United Chemi-Con; Lifetime @ Temp.: 1000 Hrs @ 105°C; Polarization: Polar; Ripple Current @ Low Frequency: 48mA @ 120Hz; Surface Mount Land Size: 0.260" L x 0.260" W (6.60mm x 6.60mm); Applications: General Purpose; Capacitance: 47µF; ComponentLink1Description: Datasheet; ComponentLink1URL: //media.digikey.com/pdf/Data%20Sheets/United%20Chemi-Con%20PDFs/MVE%20Series.pdf; ComponentLink2Description: DigiKey Link; ComponentLink2URL: http://digikey.com/product-detail/en/united-chemi-con/EMVE160ADA470MF55G/565-2200-1-ND/757361; Device Package: Radial, Can - SMD; Height - Seated (Max): 0.205" (5.20mm); LastUpdated: 9/2/2020 1:18:32 AM; Lifecycle Status: Active; Minimum Order: 1; Mounting Type: Surface Mount; Operating Temperature: -40°C ~ 105°C; Package / Case: Radial, Can - SMD; Packaging: TapeAndReel; PartId: 8689; Part Status: Active; Price: 0.08; Series: Alchip™- MVE; Size / Dimension: 0.248" Dia (6.30mm); Supplier 1: DigiKey; Supplier Part Number 1: 565-2200-1-ND; Tolerance: ±20%; Value: 47µF; Voltage - Rated: 16V
footprint CAP ALSMD 6.6MM H5.4MM
pins: 1, 2

## EMVE250ADA100ME55G
designator C?, comment 10µF
CAP ALUM 10UF 20% 25V SMD; Part Number: EMVE250ADA100ME55G; Manufacturer: United Chemi-Con; Lifetime @ Temp.: 1000 Hrs @ 105°C; Polarization: Polar; Ripple Current @ Low Frequency: 27mA @ 120Hz; Surface Mount Land Size: 0.209" L x 0.209" W (5.30mm x 5.30mm); Applications: General Purpose; Capacitance: 10µF; ComponentLink1Description: Datasheet; ComponentLink1URL: //media.digikey.com/pdf/Data%20Sheets/United%20Chemi-Con%20PDFs/MVE%20Series.pdf; ComponentLink2Description: DigiKey Link; ComponentLink2URL: http://digikey.com/product-detail/en/united-chemi-con/EMVE250ADA100ME55G/565-2216-1-ND/757377; Device Package: Radial, Can - SMD; Height - Seated (Max): 0.205" (5.20mm); LastUpdated: 9/2/2020 1:18:30 AM; Lifecycle Status: Active; Minimum Order: 1; Mounting Type: Surface Mount; Operating Temperature: -40°C ~ 105°C; Package / Case: Radial, Can - SMD; Packaging: TapeAndReel; PartId: 8587; Part Status: Active; Price: 0.08; Series: Alchip™- MVE; Size / Dimension: 0.197" Dia (5.00mm); Supplier 1: DigiKey; Supplier Part Number 1: 565-2216-1-ND; Tolerance: ±20%; Value: 10µF; Voltage - Rated: 25V
footprint CAP ALSMD 5.3MM H5.4MM
pins: 1, 2

## EMVE250ADA101MF80G
designator C?, comment 100µF
CAP ALUM 100UF 20% 25V SMD; Part Number: EMVE250ADA101MF80G; Manufacturer: United Chemi-Con; Lifetime @ Temp.: 1000 Hrs @ 105°C; Polarization: Polar; Ripple Current @ Low Frequency: 100mA @ 120Hz; Surface Mount Land Size: 0.260" L x 0.260" W (6.60mm x 6.60mm); Applications: General Purpose; Capacitance: 100µF; ComponentLink1Description: Datasheet; ComponentLink1URL: //media.digikey.com/pdf/Data%20Sheets/United%20Chemi-Con%20PDFs/MVE%20Series.pdf; ComponentLink2Description: DigiKey Link; ComponentLink2URL: http://digikey.com/product-detail/en/united-chemi-con/EMVE250ADA101MF80G/565-2220-1-ND/757381; Device Package: Radial, Can - SMD; Height - Seated (Max): 0.303" (7.70mm); LastUpdated: 9/2/2020 1:25:34 AM; Lifecycle Status: Active; Minimum Order: 1; Mounting Type: Surface Mount; Operating Temperature: -40°C ~ 105°C; Package / Case: Radial, Can - SMD; Packaging: TapeAndReel; PartId: 8320; Part Status: Active; Price: 0.14; Series: Alchip™- MVE; Size / Dimension: 0.248" Dia (6.30mm); Supplier 1: DigiKey; Supplier Part Number 1: 565-2220-1-ND; Tolerance: ±20%; Value: 100µF; Voltage - Rated: 25V
footprint CAP ALSMD 6.6MM H7.7MM
pins: 1, 2

## EMVE250ADA220MF55G
designator C?, comment 22µF
CAP ALUM 22UF 20% 25V SMD; Part Number: EMVE250ADA220MF55G; Manufacturer: United Chemi-Con; Lifetime @ Temp.: 1000 Hrs @ 105°C; Polarization: Polar; Ripple Current @ Low Frequency: 44mA @ 120Hz; Surface Mount Land Size: 0.260" L x 0.260" W (6.60mm x 6.60mm); Applications: General Purpose; Capacitance: 22µF; ComponentLink1Description: Datasheet; ComponentLink1URL: //media.digikey.com/pdf/Data%20Sheets/United%20Chemi-Con%20PDFs/MVE%20Series.pdf; ComponentLink2Description: DigiKey Link; ComponentLink2URL: http://digikey.com/product-detail/en/united-chemi-con/EMVE250ADA220MF55G/565-2217-1-ND/757378; Device Package: Radial, Can - SMD; Height - Seated (Max): 0.205" (5.20mm); LastUpdated: 9/2/2020 1:18:32 AM; Lifecycle Status: Active; Minimum Order: 1; Mounting Type: Surface Mount; Operating Temperature: -40°C ~ 105°C; Package / Case: Radial, Can - SMD; Packaging: TapeAndReel; PartId: 8626; Part Status: Active; Price: 0.08; Series: Alchip™- MVE; Size / Dimension: 0.248" Dia (6.30mm); Supplier 1: DigiKey; Supplier Part Number 1: 565-2217-1-ND; Tolerance: ±20%; Value: 22µF; Voltage - Rated: 25V
footprint CAP ALSMD 6.6MM H5.4MM
pins: 1, 2

## EMVE250ADA330MF55G
designator C?, comment 33µF
CAP ALUM 33UF 20% 25V SMD; Part Number: EMVE250ADA330MF55G; Manufacturer: United Chemi-Con; Lifetime @ Temp.: 1000 Hrs @ 105°C; Polarization: Polar; Ripple Current @ Low Frequency: 50mA @ 120Hz; Surface Mount Land Size: 0.260" L x 0.260" W (6.60mm x 6.60mm); Applications: General Purpose; Capacitance: 33µF; ComponentLink1Description: Datasheet; ComponentLink1URL: //media.digikey.com/pdf/Data%20Sheets/United%20Chemi-Con%20PDFs/MVE%20Series.pdf; ComponentLink2Description: DigiKey Link; ComponentLink2URL: http://digikey.com/product-detail/en/united-chemi-con/EMVE250ADA330MF55G/565-2218-1-ND/757379; Device Package: Radial, Can - SMD; Height - Seated (Max): 0.205" (5.20mm); LastUpdated: 9/2/2020 1:18:32 AM; Lifecycle Status: Active; Minimum Order: 1; Mounting Type: Surface Mount; Operating Temperature: -40°C ~ 105°C; Package / Case: Radial, Can - SMD; Packaging: TapeAndReel; PartId: 8728; Part Status: Active; Price: 0.08; Series: Alchip™- MVE; Size / Dimension: 0.248" Dia (6.30mm); Supplier 1: DigiKey; Supplier Part Number 1: 565-2218-1-ND; Tolerance: ±20%; Value: 33µF; Voltage - Rated: 25V
footprint CAP ALSMD 6.6MM H5.4MM
pins: 1, 2

## EMVE250ADA470MF55G
designator C?, comment 47µF
CAP ALUM 47UF 20% 25V SMD; Part Number: EMVE250ADA470MF55G; Manufacturer: United Chemi-Con; Lifetime @ Temp.: 1000 Hrs @ 105°C; Polarization: Polar; Ripple Current @ Low Frequency: 60mA @ 120Hz; Surface Mount Land Size: 0.260" L x 0.260" W (6.60mm x 6.60mm); Applications: General Purpose; Capacitance: 47µF; ComponentLink1Description: Datasheet; ComponentLink1URL: //media.digikey.com/pdf/Data%20Sheets/United%20Chemi-Con%20PDFs/MVE%20Series.pdf; ComponentLink2Description: DigiKey Link; ComponentLink2URL: http://digikey.com/product-detail/en/united-chemi-con/EMVE250ADA470MF55G/565-2219-1-ND/757380; Device Package: Radial, Can - SMD; Height - Seated (Max): 0.205" (5.20mm); LastUpdated: 9/2/2020 1:18:32 AM; Lifecycle Status: Active; Minimum Order: 1; Mounting Type: Surface Mount; Operating Temperature: -40°C ~ 105°C; Package / Case: Radial, Can - SMD; Packaging: TapeAndReel; PartId: 8690; Part Status: Active; Price: 0.08; Series: Alchip™- MVE; Size / Dimension: 0.248" Dia (6.30mm); Supplier 1: DigiKey; Supplier Part Number 1: 565-2219-1-ND; Tolerance: ±20%; Value: 47µF; Voltage - Rated: 25V
footprint CAP ALSMD 6.6MM H5.4MM
pins: 1, 2

## EMVE350ADA4R7MD55G
designator C?, comment 4.7µF
CAP ALUM 4.7UF 20% 35V SMD; Part Number: EMVE350ADA4R7MD55G; Manufacturer: United Chemi-Con; Lifetime @ Temp.: 1000 Hrs @ 105°C; Polarization: Polar; Ripple Current @ Low Frequency: 16mA @ 120Hz; Surface Mount Land Size: 0.169" L x 0.169" W (4.30mm x 4.30mm); Applications: General Purpose; Capacitance: 4.7µF; ComponentLink1Description: Datasheet; ComponentLink1URL: //media.digikey.com/pdf/Data%20Sheets/United%20Chemi-Con%20PDFs/MVE%20Series.pdf; ComponentLink2Description: DigiKey Link; ComponentLink2URL: http://digikey.com/product-detail/en/united-chemi-con/EMVE350ADA4R7MD55G/565-2229-1-ND/757390; Device Package: Radial, Can - SMD; Height - Seated (Max): 0.205" (5.20mm); LastUpdated: 9/2/2020 1:23:46 AM; Lifecycle Status: Active; Minimum Order: 1; Mounting Type: Surface Mount; Operating Temperature: -40°C ~ 105°C; Package / Case: Radial, Can - SMD; Packaging: TapeAndReel; PartId: 7039; Part Status: Active; Price: 0.07; Series: Alchip™- MVE; Size / Dimension: 0.157" Dia (4.00mm); Supplier 1: DigiKey; Supplier Part Number 1: 565-2229-1-ND; Tolerance: ±20%; Value: 4.7µF; Voltage - Rated: 35V
footprint CAP ALSMD POLY 4.3MM H5.5MM
pins: 1, 2

## EMVE350ADA100ME55G
designator C?, comment 10µF
CAP ALUM 10UF 20% 35V SMD; Part Number: EMVE350ADA100ME55G; Manufacturer: United Chemi-Con; Lifetime @ Temp.: 1000 Hrs @ 105°C; Polarization: Polar; Ripple Current @ Low Frequency: 27mA @ 120Hz; Surface Mount Land Size: 0.209" L x 0.209" W (5.30mm x 5.30mm); Applications: General Purpose; Capacitance: 10µF; ComponentLink1Description: Datasheet; ComponentLink1URL: //media.digikey.com/pdf/Data%20Sheets/United%20Chemi-Con%20PDFs/MVE%20Series.pdf; ComponentLink2Description: DigiKey Link; ComponentLink2URL: http://digikey.com/product-detail/en/united-chemi-con/EMVE350ADA100ME55G/565-2230-1-ND/757391; Device Package: Radial, Can - SMD; Height - Seated (Max): 0.205" (5.20mm); LastUpdated: 9/2/2020 1:18:29 AM; Lifecycle Status: Active; Minimum Order: 1; Mounting Type: Surface Mount; Operating Temperature: -40°C ~ 105°C; Package / Case: Radial, Can - SMD; Packaging: TapeAndReel; PartId: 8567; Part Status: Active; Price: 0.08; Series: Alchip™- MVE; Size / Dimension: 0.197" Dia (5.00mm); Supplier 1: DigiKey; Supplier Part Number 1: 565-2230-1-ND; Tolerance: ±20%; Value: 10µF; Voltage - Rated: 35V
footprint CAP ALSMD 5.3MM H5.4MM
pins: 1, 2

## EMVE350ADA101MF80G
designator C?, comment 100µF
CAP ALUM 100UF 20% 35V SMD; Part Number: EMVE350ADA101MF80G; Manufacturer: United Chemi-Con; Lifetime @ Temp.: 1000 Hrs @ 105°C; Polarization: Polar; Ripple Current @ Low Frequency: 100mA @ 120Hz; Surface Mount Land Size: 0.260" L x 0.260" W (6.60mm x 6.60mm); Applications: General Purpose; Capacitance: 100µF; ComponentLink1Description: Datasheet; ComponentLink1URL: //media.digikey.com/pdf/Data%20Sheets/United%20Chemi-Con%20PDFs/MVE%20Series.pdf; ComponentLink2Description: DigiKey Link; ComponentLink2URL: http://digikey.com/product-detail/en/united-chemi-con/EMVE350ADA101MF80G/565-2234-1-ND/757395; Device Package: Radial, Can - SMD; Height - Seated (Max): 0.303" (7.70mm); LastUpdated: 9/2/2020 1:25:35 AM; Lifecycle Status: Active; Minimum Order: 1; Mounting Type: Surface Mount; Operating Temperature: -40°C ~ 105°C; Package / Case: Radial, Can - SMD; Packaging: TapeAndReel; PartId: 8226; Part Status: Active; Price: 0.17; Series: Alchip™- MVE; Size / Dimension: 0.248" Dia (6.30mm); Supplier 1: DigiKey; Supplier Part Number 1: 565-2234-1-ND; Tolerance: ±20%; Value: 100µF; Voltage - Rated: 35V
footprint CAP ALSMD 6.6MM H7.7MM
pins: 1, 2